# Altium integrated library Buzzer-1201_42_.IntLib: 1 symbol
Pins are listed as number, name and electrical type; pins without a type are passive.

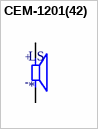
[diagram p0: symbol CEM-1201(42)]

## CEM-1201(42)
designator LS
12 mm, 1,5 V, 85 dB, furo passante, campainha elÃ©trica transdutora de Ã¡udio magnÃ©tica; MF: CUI Devices; MP: CEM-1201_42_; CUI_purchase_URL: https://www.cuidevices.com/product/audio/buzzers/audio-transducers/cem-1201_42_?utm_source=snapeda.com&utm_medium=referral&utm_campaign=snapedaBOM; Price: None; SnapEDA_Link: https://www.snapeda.com/parts/CEM-1201%2842%29/CUI%20Devices/view-part/2755977/?ref=snap; Value: *; Availability: Unavailable; Package: CUI Inc.
footprint CUI_CEM-1201(42)
pins: M, P
text: +; -